# Altium footprint library Inductor.PcbLib: 33 footprints (part 2 of 3)
Each footprint in its own frame and in the unit in brackets; x right, y up, seen from the top. Pads: shape width x height; smd on the part's side, far side on the other; paste and mask are expansions set on the pad; w line width, h text height; cw(c..) or ccw(c..) is an arc to the next point about the centre after c.
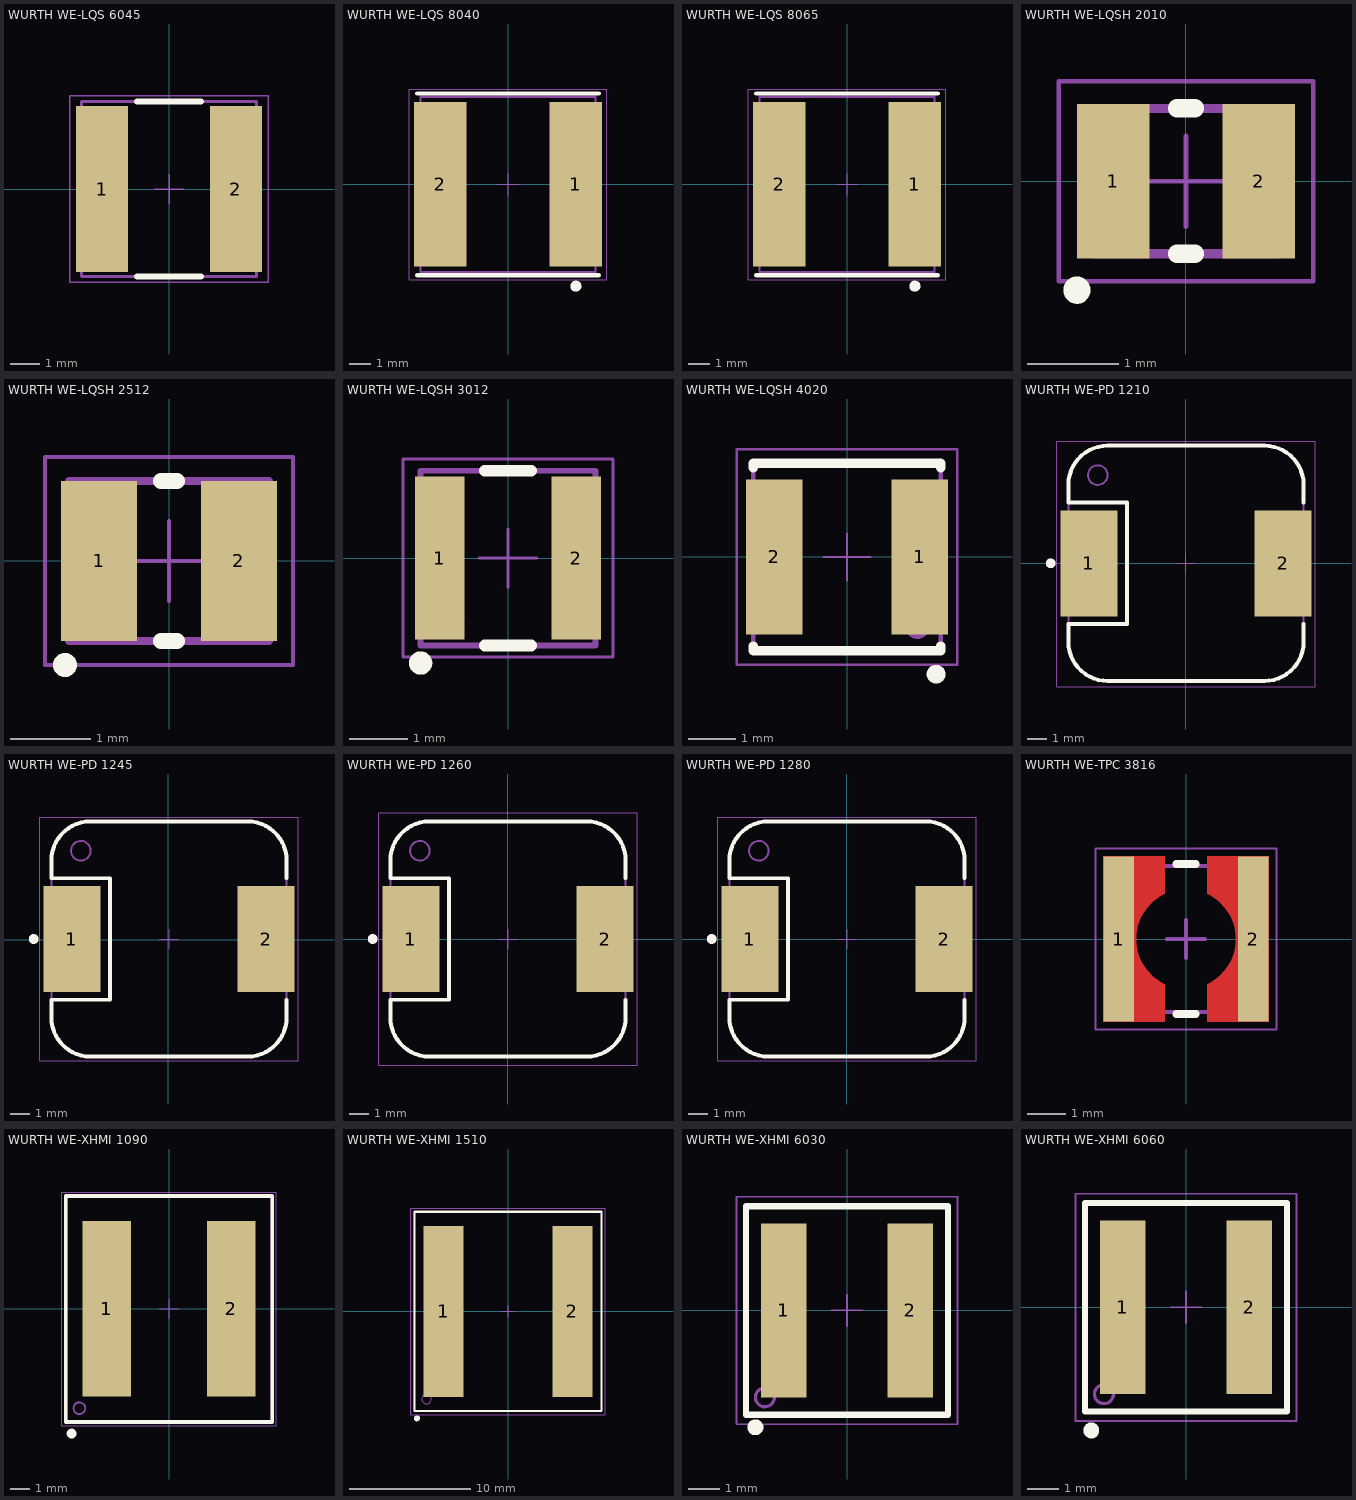
[diagram p1: the footprints below, top view; thin cyan lines are the x and y axes]

## WURTH WE-LQS 6045 [mm] "SMD Power Inductor, 2-Leads, body 6x6mm"
height 4.5
pads (2):
  rect 1.8x5.7 smd: 1(-2.3,0) 2(2.3,0)
Top Overlay:
  lines w0.2: -1.1,-3 1.1,-3 ; -1.1,3 1.1,3
Mechanical 13:
  lines w0.1: -3,-3 -3,3 3,3 3,-3 -3,-3
Mechanical 15:
  lines w0.05: -0.5,0 0.5,0 ; 0,-0.5 0,0.5 ; -3.4,-3.2 -3.4,3.2 3.4,3.2 3.4,-3.2 -3.4,-3.2
3D body "WURTH - WE-LQS H4.5mm.step": height 4.5, standoff 0, extent -3,-3 3,3

## WURTH WE-LQS 8040 [mm] "SMD Power Inductor, 2-Leads, body 8x8mm"
height 4.2
pads (2):
  rect 2.4x7.5 smd: 1(3.1,0) 2(-3.1,0)
Top Overlay:
  circle w0.25: c3.1,-4.65 r0.125
  lines w0.2: -4.15,-4.15 4.15,-4.15 ; -4.15,4.15 4.15,4.15
Top 3D Body:
  circle w0.1: c3,-3 r0.4
  lines w0.1: -4,-4 -4,4 4,4 4,-4 -4,-4
Top Component Outline:
  circle w0.1: c3,-3 r0.4
  lines w0.1: -4,-4 -4,4 4,4 4,-4 -4,-4
Top Courtyard:
  lines w0.05: -0.5,0 0.5,0 ; 0,-0.5 0,0.5 ; -4.5,-4.35 4.5,-4.35 4.5,4.35 -4.5,4.35 -4.5,-4.35
3D body "LQS_8040.stp": height 4.2, standoff 0, extent -4,-4 4,4

## WURTH WE-LQS 8065 [mm] "SMD Power Inductor, 2-Leads, body 8.3x8.3mm"
height 6.5
pads (2):
  rect 2.4x7.5 smd: 1(3.1,0) 2(-3.1,0)
Top Overlay:
  circle w0.25: c3.1,-4.65 r0.125
  lines w0.2: -4.15,-4.15 4.15,-4.15 ; -4.15,4.15 4.15,4.15
Top Component Outline:
  circle w0.1: c3,-3 r0.4
  circle w0.1: c3,-3 r0.4
  lines w0.1: -4,-4 4,-4 ; -4,-4 -4,4 ; -4,-4 4,-4 ; -4,-4 -4,4 ; -4,4 4,4 ; -4,4 4,4 ; 4,-4 4,4 ; 4,-4 4,4
Top Courtyard:
  lines w0.05: -4.5,-4.35 -4.5,4.35 4.5,4.35 4.5,-4.35 -4.5,-4.35
Top Assembly:
  lines w0.05: -0.5,0 0.5,0 ; 0,-0.5 0,0.5
3D body "IndLQS_8065.stp": height 6.52, standoff 0.02, extent -4,-4 4,4

## WURTH WE-LQSH 2010 [mm] "SMT Semi-Shielded High Saturation Power Inductor, body 2x1.6mm"
height 1
pads (2):
  rect 0.8x1.7 smd: 1(-0.8,0) 2(0.8,0)
Top Overlay:
  circle w0.15: c-1.2,-1.2 r0.075
  lines w0.2: -0.1,-0.8 0.1,-0.8 ; -0.1,0.8 0.1,0.8
Top Component Outline:
  circle w0.1: c-0.7,-0.5 r0.15
  lines w0.1: -1,-0.8 -1,0.8 1,0.8 1,-0.8 -1,-0.8
Top Courtyard:
  lines w0.05: -1.4,-1.1 -1.4,1.1 1.4,1.1 1.4,-1.1 -1.4,-1.1
Top Assembly:
  circle w0.1: c-0.7,-0.5 r0.15
  lines w0.05: -0.5,0 0.5,0 ; 0,-0.5 0,0.5
  lines w0.1: -1,-0.8 -1,0.8 1,0.8 1,-0.8 -1,-0.8
3D body "IndLQSH_2010.stp": height 0.99, standoff -0.01, extent -1,-0.8 1,0.8

## WURTH WE-LQSH 2512 [mm] "SMT Semi-Shielded High Saturation Power Inductor, body 2.5x2mm"
height 1.2
pads (2):
  rect 0.95x2 smd: 1(-0.875,0) 2(0.875,0)
Top Overlay:
  circle w0.15: c-1.3,-1.3 r0.075
  lines w0.2: -0.1,-1 0.1,-1 ; -0.1,1 0.1,1
Top 3D Body:
  circle w0.1: c-0.85,-0.6 r0.2
  lines w0.1: -1.25,-1 1.25,-1 1.25,1 -1.25,1 -1.25,-1
Top Courtyard:
  lines w0.05: -0.5,0 0.5,0 ; 0,-0.5 0,0.5 ; -1.55,-1.3 1.55,-1.3 1.55,1.3 -1.55,1.3 -1.55,-1.3
Top Assembly:
  circle w0.1: c-0.85,-0.6 r0.2
  lines w0.1: -1.25,-1 1.25,-1 1.25,1 -1.25,1 -1.25,-1
3D body "IndLQSH_2512.stp": height 1.19, standoff -0.01, extent -1.25,-1 1.25,1

## WURTH WE-LQSH 3012 [mm] "SMT Semi-Shielded High Saturation Power Inductor, body 3x3mm"
height 1.2
pads (2):
  rect 0.85x2.8 smd: 1(-1.175,0) 2(1.175,0)
Top Overlay:
  circle w0.2: c-1.5,-1.8 r0.1
  lines w0.2: -0.4,-1.5 0.4,-1.5 ; -0.4,1.5 0.4,1.5
Top Component Outline:
  circle w0.1: c-1,-1 r0.2
  lines w0.1: -1.5,-1.5 1.5,-1.5 1.5,1.5 -1.5,1.5 -1.5,-1.5
Top Courtyard:
  lines w0.05: -1.8,-1.7 -1.8,1.7 1.8,1.7 1.8,-1.7 -1.8,-1.7
Top Assembly:
  circle w0.1: c-1,-1 r0.2
  lines w0.05: -0.5,0 0.5,0 ; 0,-0.5 0,0.5
  lines w0.1: -1.5,-1.5 1.5,-1.5 1.5,1.5 -1.5,1.5 -1.5,-1.5
3D body "IndLQSH_3012.stp": height 1.2, standoff 0, extent -1.5,-1.543 1.5,1.5

## WURTH WE-LQSH 4020 [mm] "SMT Semi-Shielded High Saturation Power Inductor, body 4x4mm"
height 2
pads (2):
  rect 1.2x3.3 smd: 1(1.55,0) 2(-1.55,0)
Top Overlay:
  circle w0.2: c1.9,-2.5 r0.1
  lines w0.2: -2,-1.9 -2,-2 2,-2 2,-1.9 ; -2,1.9 -2,2 2,2 2,1.9
Top Component Outline:
  circle w0.1: c1.5,-1.5 r0.2
  lines w0.1: -2,-2 2,-2 2,2 -2,2 -2,-2
Top Courtyard:
  lines w0.05: -2.35,-2.3 2.35,-2.3 2.35,2.3 -2.35,2.3 -2.35,-2.3
Top Assembly:
  circle w0.1: c1.5,-1.5 r0.2
  lines w0.05: -0.5,0 0.5,0 ; 0,-0.5 0,0.5
  lines w0.1: -2,-2 2,-2 2,2 -2,2 -2,-2
3D body "IndLQSH_4020.stp": height 2.01, standoff 0.02, extent -2,-2.02 2,2

## WURTH WE-PD 1210 [mm] "SMT Shielded Power Inductor, 2-leads, body 12x12mm"
height 10
pads (2):
  rect 2.9x5.4 smd: 1(-4.95,-0.016) 2(4.95,-0.016)
Top Overlay:
  circle w0.25: c-6.9,-0.016 r0.125
  lines w0.2: 6,-3.116 6,-4.016 cw(c4,-4.016) 4,-6.016 -4,-6.016 cw(c-4,-4.016) -6,-4.016 -6,-3.116 -3,-3.116 -3,3.084 -6,3.084 -6,3.984 cw(c-4,3.984) -4,5.984 4,5.984 cw(c4,3.984) 6,3.984 6,3.084
Top Component Outline:
  circle w0.1: c-4.5,4.484 r0.5
  lines w0.1: -6,-4.016 ccw(c-4,-4.016) -4,-6.016 4,-6.016 ccw(c4,-4.016) 6,-4.016 6,3.984 ccw(c4,3.984) 4,5.984 -4,5.984 ccw(c-4,3.984) -6,3.984 -6,-4.016
Top Courtyard:
  lines w0.05: -6.6,-6.3 -6.6,6.2 6.6,6.2 6.6,-6.3 -6.6,-6.3
Top Assembly:
  circle w0.1: c-4.5,4.484 r0.5
  lines w0.05: -0.5,-0.016 0.5,-0.016 ; 0,-0.516 0,0.484
  lines w0.1: -6,-4.016 ccw(c-4,-4.016) -4,-6.016 4,-6.016 ccw(c4,-4.016) 6,-4.016 6,3.984 ccw(c4,3.984) 4,5.984 -4,5.984 ccw(c-4,3.984) -6,3.984 -6,-4.016
3D body "WE-PD_1210_m-base_7447709xx.stp": height 9.46, standoff 0, extent -6,-6.016 6,5.984

## WURTH WE-PD 1245 [mm] "SMT Shielded Power Inductor, 2-leads, body 12x12mm"
height 4.5
pads (2):
  rect 2.9x5.4 smd: 1(-4.923,0.027) 2(4.977,0.027)
Top Overlay:
  circle w0.25: c-6.873,0.027 r0.125
  lines w0.2: 6.027,-3.073 6.027,-3.973 cw(c4.027,-3.973) 4.027,-5.973 -3.973,-5.973 cw(c-3.973,-3.973) -5.973,-3.973 -5.973,-3.073 -2.973,-3.073 -2.973,3.127 -5.973,3.127 -5.973,4.027 cw(c-3.973,4.027) -3.973,6.027 4.027,6.027 cw(c4.027,4.027) 6.027,4.027 6.027,3.127
Top Component Outline:
  circle w0.1: c-4.473,4.527 r0.5
  lines w0.1: -5.973,-3.973 ccw(c-3.973,-3.973) -3.973,-5.973 4.027,-5.973 ccw(c4.027,-3.973) 6.027,-3.973 6.027,4.027 ccw(c4.027,4.027) 4.027,6.027 -3.973,6.027 ccw(c-3.973,4.027) -5.973,4.027 -5.973,-3.973
Top Courtyard:
  lines w0.05: -6.573,-6.173 -6.573,6.227 6.627,6.227 6.627,-6.173 -6.573,-6.173
Top Assembly:
  circle w0.1: c-4.473,4.527 r0.5
  lines w0.05: -0.473,0.027 0.527,0.027 ; 0.027,-0.473 0.027,0.527
  lines w0.1: -5.973,-3.973 ccw(c-3.973,-3.973) -3.973,-5.973 4.027,-5.973 ccw(c4.027,-3.973) 6.027,-3.973 6.027,4.027 ccw(c4.027,4.027) 4.027,6.027 -3.973,6.027 ccw(c-3.973,4.027) -5.973,4.027 -5.973,-3.973
3D body "WE-PD_1245_m-base_7447715xx.stp": height 3.96, standoff 0, extent -5.973,-5.973 6.027,6.027

## WURTH WE-PD 1260 [mm] "SMT Shielded Power Inductor, 2-leads, body 12x12mm"
height 6
pads (2):
  rect 2.9x5.4 smd: 1(-4.95,0) 2(4.95,0)
Top Overlay:
  circle w0.25: c-6.9,0 r0.125
  lines w0.2: 6,-3.1 6,-4 cw(c4,-4) 4,-6 -4,-6 cw(c-4,-4) -6,-4 -6,-3.1 -3,-3.1 -3,3.1 -6,3.1 -6,4 cw(c-4,4) -4,6 4,6 cw(c4,4) 6,4 6,3.1
Top Component Outline:
  circle w0.1: c-4.5,4.5 r0.5
  lines w0.1: -6,-4 ccw(c-4,-4) -4,-6 4,-6 ccw(c4,-4) 6,-4 6,4 ccw(c4,4) 4,6 -4,6 ccw(c-4,4) -6,4 -6,-4
Top Courtyard:
  lines w0.05: -6.6,-6.45 6.6,-6.45 6.6,6.45 -6.6,6.45 -6.6,-6.45
Top Assembly:
  circle w0.1: c-4.5,4.5 r0.5
  lines w0.05: -0.5,0 0.5,0 ; 0,-0.5 0,0.5
  lines w0.1: -6,-4 ccw(c-4,-4) -4,-6 4,-6 ccw(c4,-4) 6,-4 6,4 ccw(c4,4) 4,6 -4,6 ccw(c-4,4) -6,4 -6,-4
3D body "WE-PD_1260_m-base_744771xxx.stp": height 5.66, standoff 0, extent -6,-6 6,6

## WURTH WE-PD 1280 [mm] "SMT Shielded Power Inductor, 2-leads, body 12x12mm"
height 8
pads (2):
  rect 2.9x5.4 smd: 1(-4.95,0) 2(4.95,0)
Top Overlay:
  circle w0.25: c-6.9,0 r0.125
  lines w0.2: 6,-3.1 6,-4 ; 6,3.1 6,4 ; 6,-4 cw(c4,-4) 4,-6 -4,-6 cw(c-4,-4) -6,-4 -6,-3.1 -3,-3.1 -3,3.1 -6,3.1 -6,4 cw(c-4,4) -4,6 4,6 cw(c4,4) 6,4 ; 6,-4 6,-4 ; 6,4 6,4
Top Component Outline:
  circle w0.1: c-4.5,4.5 r0.5
  lines w0.1: -6,-4 ccw(c-4,-4) -4,-6 4,-6 ccw(c4,-4) 6,-4 6,4 ccw(c4,4) 4,6 -4,6 ccw(c-4,4) -6,4 -6,-4
Top Courtyard:
  lines w0.05: -6.6,-6.2 -6.6,6.2 6.6,6.2 6.6,-6.2 -6.6,-6.2
Top Assembly:
  circle w0.1: c-4.5,4.5 r0.5
  lines w0.05: -0.5,0 0.5,0 ; 0,-0.5 0,0.5
  lines w0.1: -6,-4 ccw(c-4,-4) -4,-6 4,-6 ccw(c4,-4) 6,-4 6,4 ccw(c4,4) 4,6 -4,6 ccw(c-4,4) -6,4 -6,-4
3D body "WE-PD_1280_m-base_744770xxx.stp": height 7.51, standoff 0.05, extent -6,-6 6,6

## WURTH WE-TPC 3816 [mm] "Power Inductor, SMD, 2-Leads, body 3.8x3.8mm"
height 1.65
pads (2):
  rect 0.8x4.3 smd paste-403.566 mask-403.566: 1(-1.75,0) 2(1.75,0)
Top Layer:
  region: -0.55,-2.15 -2.15,-2.15 -2.15,2.15 -0.55,2.15 -0.55,1.178 -0.658,1.121 -0.857,0.977 -1.026,0.799 -1.157,0.592 -1.248,0.364 -1.294,0.123 -1.294,-0.122 -1.248,-0.363 -1.158,-0.592 -1.026,-0.798 -0.858,-0.977 -0.659,-1.121 -0.55,-1.178
  region: 0.55,2.15 2.15,2.15 2.15,-2.15 0.55,-2.15 0.55,-1.178 0.658,-1.121 0.857,-0.977 1.026,-0.799 1.157,-0.592 1.248,-0.364 1.294,-0.123 1.294,0.122 1.248,0.363 1.158,0.592 1.026,0.798 0.858,0.977 0.659,1.121 0.55,1.178
Top Overlay:
  lines w0.2: -0.25,-1.95 0.25,-1.95 ; -0.25,1.95 0.25,1.95
Mechanical 13:
  lines w0.1: -1.9,-1.9 1.9,-1.9 1.9,1.9 -1.9,1.9 -1.9,-1.9
Mechanical 15:
  lines w0.05: -0.5,0 0.5,0 ; 0,-0.5 0,0.5 ; -2.35,-2.35 2.35,-2.35 2.35,2.35 -2.35,2.35 -2.35,-2.35
  lines w0.1: -0.5,0 0.5,0 ; 0,-0.5 0,0.5
3D body "WURTH - WE-TPC H1.65mm.step": height 1.65, standoff 0, extent -1.958,-1.87 1.842,1.93

## WURTH WE-XHMI 1090 [mm] "SMT Power Inductor, 2-Leads, body 11.6x10.5mm"
height 8.8
pads (2):
  rect 2.5x9 smd: 1(-3.2,0) 2(3.2,0)
Top Overlay:
  circle w0.25: c-5,-6.4 r0.125
  lines w0.2: -5.3,-5.8 -5.3,5.8 5.3,5.8 5.3,-5.8 -5.3,-5.8
Top Component Outline:
  circle w0.1: c-4.6,-5.1 r0.3
  lines w0.1: -5.25,-5.8 5.25,-5.8 5.25,5.8 -5.25,5.8 -5.25,-5.8
Top Courtyard:
  lines w0.05: -5.5,-6 -5.5,6 5.5,6 5.5,-6 -5.5,-6
Top Assembly:
  circle w0.1: c-4.6,-5.1 r0.3
  lines w0.05: -0.5,0 0.5,0 ; 0,-0.5 0,0.5
  lines w0.1: -5.25,-5.8 -5.25,5.8 5.25,5.8 5.25,-5.8 -5.25,-5.8
3D body "74439369xxx.stp": height 8.8, standoff 0, extent -5.25,-5.8 5.25,5.8

## WURTH WE-XHMI 1510 [mm] "SMT Power Inductor, 2-Leads, body 16.4x15.4mm"
height 10
pads (2):
  rect 3.3x14.1 smd: 1(-5.3,0) 2(5.3,0)
Top Overlay:
  circle w0.25: c-7.5,-8.8 r0.125
  lines w0.2: -7.7,-8.2 7.7,-8.2 7.7,8.2 -7.7,8.2 -7.7,-8.2
Top Component Outline:
  circle w0.1: c-6.7,-7.2 r0.4
  lines w0.1: -7.7,-8.2 -7.7,8.2 7.7,8.2 7.7,-8.2 -7.7,-8.2
Top Courtyard:
  lines w0.05: -8,-8.5 8,-8.5 8,8.5 -8,8.5 -8,-8.5
Top Assembly:
  circle w0.1: c-6.7,-7.2 r0.4
  lines w0.05: -0.5,0 0.5,0 ; 0,-0.5 0,0.5
  lines w0.1: -7.7,-8.2 7.7,-8.2 7.7,8.2 -7.7,8.2 -7.7,-8.2
3D body "74439370xxx.stp": height 10, standoff 0, extent -7.7,-8.2 7.7,8.2

## WURTH WE-XHMI 6030 [mm] "SMT Power Inductor, 2-Leads, body 6.65x6.45mm"
height 3
pads (2):
  rect 1.45x5.5 smd: 1(-2,0) 2(2,0)
Top Overlay:
  circle w0.25: c-2.9,-3.7 r0.125
  lines w0.2: -3.2,-3.3 -3.2,3.3 3.2,3.3 3.2,-3.3 -3.2,-3.3
Top Component Outline:
  circle w0.1: c-2.6,-2.75 r0.3
  lines w0.1: -3.225,-3.325 3.225,-3.325 3.225,3.325 -3.225,3.325 -3.225,-3.325
Top Courtyard:
  lines w0.05: -3.5,-3.6 -3.5,3.6 3.5,3.6 3.5,-3.6 -3.5,-3.6
Top Assembly:
  circle w0.1: c-2.6,-2.75 r0.3
  lines w0.05: -0.5,0 0.5,0 ; 0,-0.5 0,0.5
  lines w0.1: -3.225,-3.325 -3.225,3.325 3.225,3.325 3.225,-3.325 -3.225,-3.325
3D body "74439344xxx.stp": height 3, standoff 0, extent -3.225,-3.325 3.225,3.325

## WURTH WE-XHMI 6060 [mm] "SMT Power Inductor, 2-Leads, body 6.65x6.45mm"
height 5.8
pads (2):
  rect 1.45x5.5 smd: 1(-2,0) 2(2,0)
Top Overlay:
  circle w0.25: c-3,-3.9 r0.125
  lines w0.2: -3.2,-3.3 3.2,-3.3 3.2,3.3 -3.2,3.3 -3.2,-3.3
Top Component Outline:
  circle w0.1: c-2.6,-2.75 r0.3
  lines w0.1: -3.225,-3.325 -3.225,3.325 3.225,3.325 3.225,-3.325 -3.225,-3.325
Top Courtyard:
  lines w0.05: -3.5,-3.6 3.5,-3.6 3.5,3.6 -3.5,3.6 -3.5,-3.6
Top Assembly:
  circle w0.1: c-2.6,-2.75 r0.3
  lines w0.05: -0.5,0 0.5,0 ; 0,-0.5 0,0.5
  lines w0.1: -3.225,-3.325 3.225,-3.325 3.225,3.325 -3.225,3.325 -3.225,-3.325
3D body "74439346xxx.stp": height 5.8, standoff 0, extent -3.225,-3.325 3.225,3.325